# Altium footprint library Fuse_holder.PcbLib: 1 footprints
Each footprint in its own frame and in the unit in brackets; x right, y up, seen from the top. Pads: shape width x height; smd on the part's side, far side on the other; paste and mask are expansions set on the pad; w line width, h text height; cw(c..) or ccw(c..) is an arc to the next point about the centre after c.
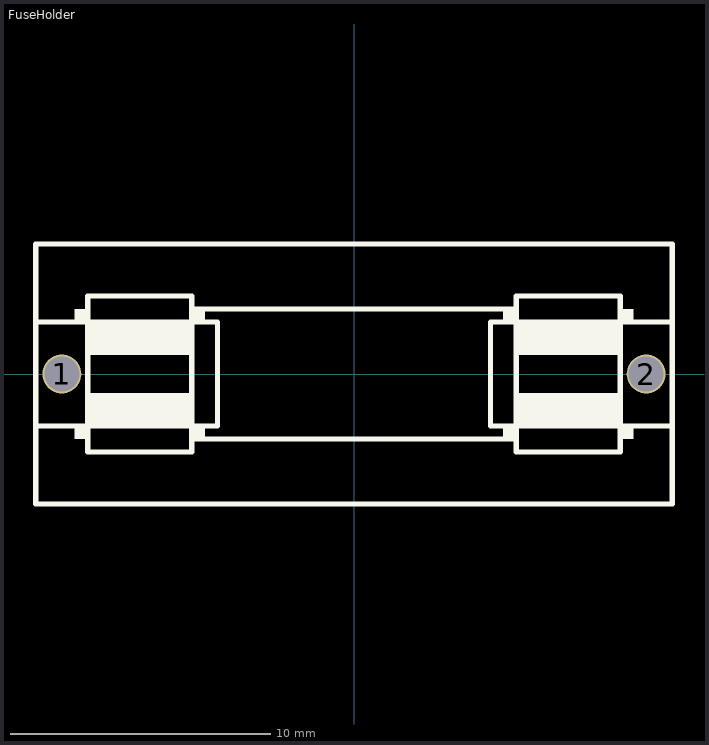
[diagram p0: the footprint, top view; thin cyan lines are the x and y axes]

## FuseHolder [mm]
pads (2):
  round 1.5 hole 1.35: 1(-11.25,0) 2(11.25,0)
Top Overlay:
  region: 6.25,-2 6.25,-0.75 10.25,-0.75 10.25,-2
  region: 6.25,2 10.25,2 10.25,0.75 6.25,0.75
  region: 6.25,2 6.25,2.5 5.75,2.5 5.75,2
  region: 6.25,-2 5.75,-2 5.75,-2.5 6.25,-2.5
  region: 10.25,-2 10.75,-2 10.75,-2.5 10.25,-2.5
  region: 10.25,2 10.25,2.5 10.75,2.5 10.75,2
  region: -10.25,-2 -10.25,-0.75 -6.25,-0.75 -6.25,-2
  region: -10.25,2 -6.25,2 -6.25,0.75 -10.25,0.75
  region: -10.25,2 -10.25,2.5 -10.75,2.5 -10.75,2
  region: -10.25,-2 -10.75,-2 -10.75,-2.5 -10.25,-2.5
  region: -6.25,-2 -5.75,-2 -5.75,-2.5 -6.25,-2.5
  region: -6.25,2 -6.25,2.5 -5.75,2.5 -5.75,2
  lines w0.2: -12.25,-2 -10.25,-2 ; -12.25,2 -10.25,2 ; -6.25,-2.5 6.25,-2.5 ; -6.25,2.5 6.25,2.5 ; 12.25,-2 10.25,-2 ; 12.25,2 10.25,2 ; -10.25,-2 -10.25,-3 -6.25,-3 -6.25,-2 ; -10.25,-2 -6.25,-2 ; -10.25,-2 -10.25,2 ; -10.25,2 -10.25,3 -6.25,3 -6.25,2 ; -10.25,2 -6.25,2 ; -6.25,-2 -5.25,-2 -5.25,2 -6.25,2 ; -6.25,-2 -6.25,2 ; 6.25,-2 5.25,-2 5.25,2 6.25,2 ; 6.25,-2 6.25,-3 10.25,-3 10.25,-2 ; 6.25,-2 10.25,-2 ; 6.25,-2 6.25,2 ; 6.25,2 6.25,3 10.25,3 10.25,2 ; 6.25,2 10.25,2 ; 10.25,-2 10.25,2 ; -12.25,-5 12.25,-5 12.25,5 -12.25,5 -12.25,-5
3D body "696103201002.stp": height 11.8, standoff -3.8, extent -12.05,-4.75 12.05,4.85